# Altium schematic symbol library TLM_schematic.SchLib: 11 symbols
Pins are listed as number, name and electrical type; pins without a type are passive.

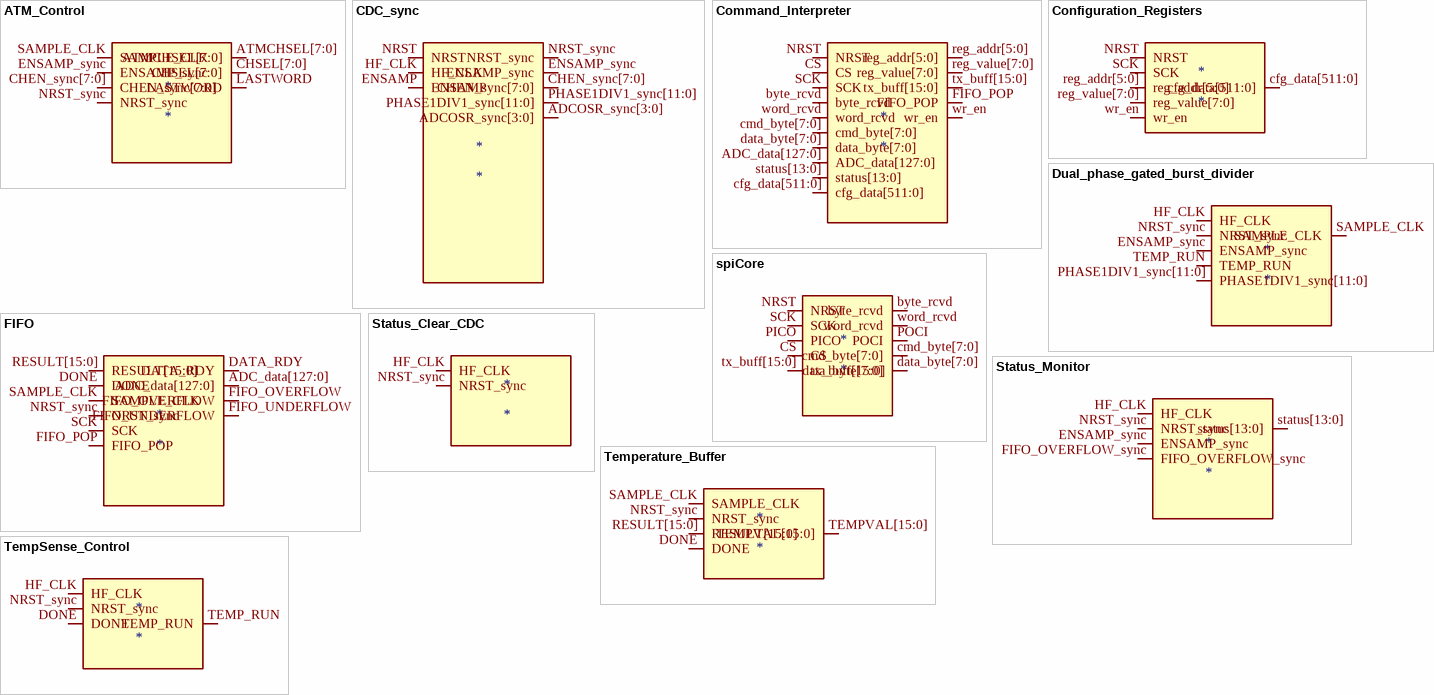
[diagram p0: symbols ATM_Control to TempSense_Control]

## ATM_Control
designator *
pins: ATMCHSEL[7:0], CHEN_sync[7:0], CHSEL[7:0], ENSAMP_sync, LASTWORD, NRST_sync, SAMPLE_CLK

## CDC_sync
designator *
pins: ADCOSR_sync[3:0], CHEN_sync[7:0], ENSAMP, ENSAMP_sync, HF_CLK, NRST, NRST_sync, PHASE1DIV1_sync[11:0]

## Command_Interpreter
designator *
pins: ADC_data[127:0], byte_rcvd, cfg_data[511:0], cmd_byte[7:0], CS, data_byte[7:0], FIFO_POP, NRST, reg_addr[5:0], reg_value[7:0], SCK, status[13:0], tx_buff[15:0], word_rcvd, wr_en

## Configuration_Registers
designator *
pins: cfg_data[511:0], NRST, reg_addr[5:0], reg_value[7:0], SCK, wr_en

## Dual_phase_gated_burst_divider
designator *
pins: ENSAMP_sync, HF_CLK, NRST_sync, PHASE1DIV1_sync[11:0], SAMPLE_CLK, TEMP_RUN

## FIFO
designator *
pins: ADC_data[127:0], DATA_RDY, DONE, FIFO_OVERFLOW, FIFO_POP, FIFO_UNDERFLOW, NRST_sync, RESULT[15:0], SAMPLE_CLK, SCK

## spiCore
designator *
pins: byte_rcvd, cmd_byte[7:0], CS, data_byte[7:0], NRST, PICO, POCI, SCK, tx_buff[15:0], word_rcvd

## Status_Clear_CDC
designator *
pins: HF_CLK, NRST_sync

## Status_Monitor
designator *
pins: ENSAMP_sync, FIFO_OVERFLOW_sync, HF_CLK, NRST_sync, status[13:0]

## Temperature_Buffer
designator *
pins: DONE, NRST_sync, RESULT[15:0], SAMPLE_CLK, TEMPVAL[15:0]

## TempSense_Control
designator *
pins: DONE, HF_CLK, NRST_sync, TEMP_RUN